# EAGLE library part SCA100T (library acceleration_inclination)
Two axis precision inclinometer/accellerometer
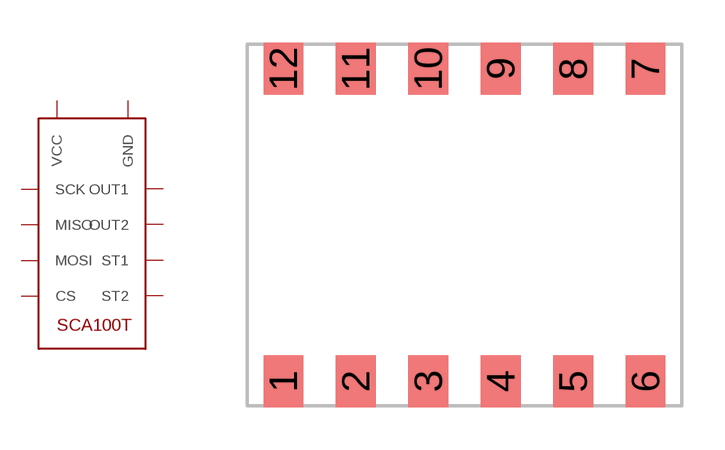
[diagram p1: symbol with the pads of SCA100T; footprint SCA100T]

Designator prefix -

## SCA100T  [SCA100T]
1  SCK
3  MISO
4  MOSI
5  OUT2
6  GND
7  CS
9  ST2
10  ST1
11  OUT1
12  VCC

## Footprint SCA100T (pad centres in mm)
smd 1.397 x 1.829: 1 -6.35,-5.486; 2 -3.81,-5.486; 3 -1.27,-5.486; 4 1.27,-5.486; 5 3.81,-5.486; 6 6.35,-5.486; 7 6.35,5.486; 8 3.81,5.486; 9 1.27,5.486; 10 -1.27,5.486; 11 -3.81,5.486; 12 -6.35,5.486